# Altium footprint library Custom_Footprints.PcbLib: 15 footprints
Each footprint in its own frame and in the unit in brackets; x right, y up, seen from the top. Pads: shape width x height; smd on the part's side, far side on the other; paste and mask are expansions set on the pad; w line width, h text height; cw(c..) or ccw(c..) is an arc to the next point about the centre after c.
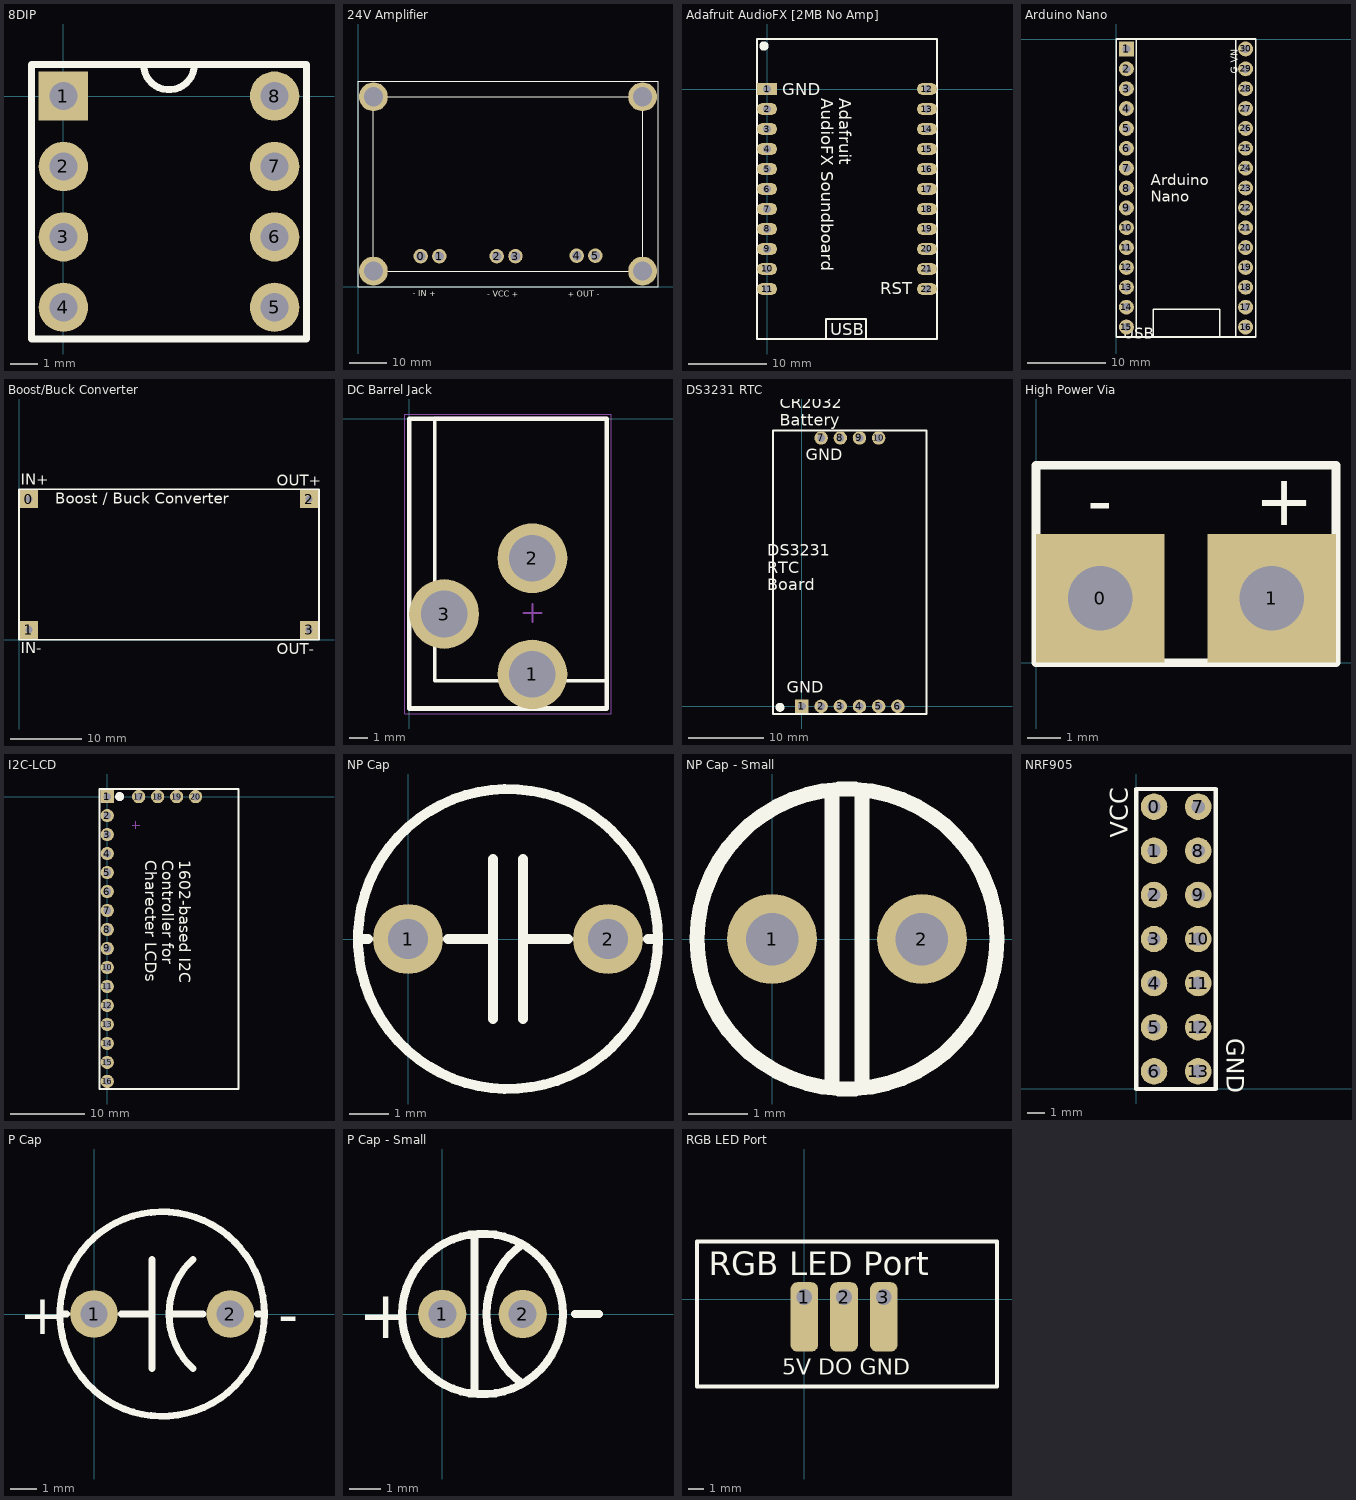
[diagram p0: the footprints below, top view; thin cyan lines are the x and y axes]

## 8DIP [mil]
pads (8):
  rect 70x70 hole 40: 1(0,0)
  round 70 hole 40: 2(0,-100) 3(0,-200) 4(0,-300) 5(300,-300) 6(300,-200) 7(300,-100) 8(300,0)
Top Overlay:
  lines w10: 113.94,45 ccw(c150,45) 186.06,45 ; -45,-345 345,-345 345,45 -45,45 -45,-345

## 24V Amplifier [mil]
pads (10):
  round 150 hole 100: 0(650,315) 1(845,315) 2(1440,315) 3(1635,315) 4(2270,320) 5(2465,320)
  round 300 hole 200: ""(160,160) ""(160,1970) ""(2955,160) ""(2955,1970)
Top Overlay:
  lines w10: 160,160 160,1970 2955,1970 2955,160 ; 160,160 2955,160 ; 160,160 2955,160 ; 0,0 3115,0 3115,2130 0,2130 0,0
  text "+ OUT -" at 2180,-105 h60
  text "- VCC +" at 1340,-105 h60
  text "- IN +" at 570,-100 h60

## Adafruit AudioFX [2MB No Amp] [mil]
pads (22):
  rect 100x60 hole 40: 1(0,0)
  oval 100x60 hole 40: 2(0,-100) 3(0,-200) 4(0,-300) 5(0,-400) 6(0,-500) 7(0,-600) 8(0,-700) 9(0,-800) 10(0,-900) 11(0,-1000) 12(800,0) 13(800,-100) 14(800,-200) 15(800,-300) 16(800,-400) 17(800,-500) 18(800,-600) 19(800,-700) 20(800,-800) 21(800,-900) 22(800,-1000)
Top Overlay:
  circle w23.62: c-15,215 r11.81
  lines w10: -50,-1250 850,-1250 850,250 -50,250 -50,-1250 ; 295,-1250 495,-1250 495,-1150 295,-1150 295,-1250
  text "GND" at 75,-30 h60
  text "USB" at 315,-1230 h60
  text "RST" at 565,-1025 h60
  text "Adafruit / AudioFX Soundboard" at 270,-45 h60

## Arduino Nano [mil]
pads (30):
  rect 75x75 hole 40: 1(50,-50)
  round 75 hole 40: 2(50,-150) 3(50,-250) 4(50,-350) 5(50,-450) 6(50,-550) 7(50,-650) 8(50,-750) 9(50,-850) 10(50,-950) 11(50,-1050) 12(50,-1150) 13(50,-1250) 14(50,-1350) 15(50,-1450) 16(650,-1450) 17(650,-1350) 18(650,-1250) 19(650,-1150) 20(650,-1050) 21(650,-950) 22(650,-850) 23(650,-750) 24(650,-650) 25(650,-550) 26(650,-450) 27(650,-350) 28(650,-250) 29(650,-150) 30(650,-50)
Top Overlay:
  lines w7.87: 5,0 640,0 ; 50,-1500 615,-1500 ; 185,-1500 185,-1360 520,-1360 520,-1500 455,-1500 ; 555,-1500 700,-1500 700,-75 700,-30 700,0 555,0 ; 600,-1500 600,0 ; 0,-1500 100,-1500 100,-75 100,0 0,0 0,-1500
  text "VN" at 610,-120 h35
  text "Arduino / Nano" at 173.05,-817.93 h55.12
  text "USB" at 35,-1510 h55.12
  text "G" at 610,-175 h35

## Boost/Buck Converter [mil]
pads (4):
  rect 100x100 hole 40: 0(55,780) 1(55,55) 2(1610,780) 3(1610,55)
Top Overlay:
  lines w10: 0,0 1665,0 1665,835 0,835 0,0
  text "IN+" at 10,860 h60
  text "OUT+" at 1430,855 h60
  text "IN-" at 10,-75 h60
  text "OUT-" at 1430,-80 h60
  text "Boost / Buck Converter" at 200,755 h60

## DC Barrel Jack [mil]
pads (3):
  round 150 hole 100: 1(265,-550) 2(265,-300) 3(75,-420)
Top Overlay:
  lines w7.87: 55,-475.2 55,-563.78 207.91,-563.78 ; 55,-361.02 55,0 425,0 425,-563.78 322.09,-563.78
  lines w10: 0,-623.15 425,-623.15 425,0 0,0 0,-623.15
Mechanical 13:
  lines w3.94: 55,-563.77 425,-563.77 425,3.16 55,3.16 55,-563.77
Mechanical 15:
  lines w1.97: -10,-635 -10,10 435,10 435,-635 -10,-635
  lines w3.94: 245.32,-418.11 284.69,-418.11 ; 265,-437.8 265,-398.43

## DS3231 RTC [mil]
pads (10):
  rect 70x70 hole 40: 1(0,0)
  round 70 hole 40: 2(100,0) 3(200,0) 4(300,0) 5(400,0) 6(500,0) 7(100,1400) 8(200,1400) 9(300,1400) 10(400,1400)
Top Overlay:
  circle w23.62: c-115,-5 r11.81
  lines w10: -150,-40 650,-40 650,1440 -150,1440 -150,-40
  text "DS3231 / RTC / Board" at -179.86,605 h60
  text "Replace with  / CR2032 / Battery" at -115,1465 h60
  text "GND" at -80,70 h60
  text "GND" at 20,1285 h60

## High Power Via [mil]
pads (2):
  rect 150x150 hole 75: 0(75,75) 1(275,75)
Top Overlay:
  lines w10: 0,0 350,0 350,230 0,230 0,0
  text "+" at 255,160 h60
  text "-" at 60,160.01 h60

## I2C-LCD [mil] "Converter Board for I2C-LCD"
pads (20):
  rect 70x70 hole 40: 1(0,0)
  round 70 hole 40: 2(0,-100) 3(0,-200) 4(0,-300) 5(0,-400) 6(0,-500) 7(0,-600) 8(0,-700) 9(0,-800) 10(0,-900) 11(0,-1000) 12(0,-1100) 13(0,-1200) 14(0,-1300) 15(0,-1400) 16(0,-1500) 17(165,0) 18(265,0) 19(365,0) 20(465,0)
Top Overlay:
  circle w23.62: c65,0 r11.81
  lines w10: -40,-1540 -40,40 690,40 690,-1540 -40,-1540
  text "1602-based I2C  / Controller for  / Charecter LCDs" at 200,-335 h60
Mechanical 13:
  circle w3.94: c65,0 r19.68
Mechanical 15:
  lines w3.94: 130.31,-150 169.69,-150 ; 150,-169.69 150,-130.31

## NP Cap [mil]
pads (2):
  round 70 hole 40: 1(0,0) 2(200,0)
Top Overlay:
  circle w10: c100,0 r150
  lines w10: -50,0 -40,0 ; 40,0 85,0 ; 85,-80 85,80 ; 115,-80 115,80 ; 115,0 160,0 ; 240,0 250,0

## NP Cap - Small [mil]
pads (2):
  round 60 hole 35: 1(0,0) 2(100,0)
Top Overlay:
  circle w10: c50,0 r100
  lines w10: 40,-95 40,95 ; 60,-95 60,95

## NRF905 [mil]
pads (14):
  round 60 hole 30: 0(40,640) 1(40,540) 2(40,440) 3(40,340) 4(40,240) 5(40,140) 6(40,40) 7(140,640) 8(140,540) 9(140,440) 10(140,340) 11(140,240) 12(140,140) 13(140,40)
Top Overlay:
  lines w10: 0,0 180,0 180,680 0,680 0,0
  text "GND" at 205,115 h40
  text "VCC" at -20,570 h40

## P Cap [mil]
pads (2):
  round 70 hole 40: 1(0,0) 2(200,0)
Top Overlay:
  circle w10: c100,0 r150
  lines w10: -50,0 -40,0 ; 40,0 85,0 ; 85,-80 85,80 ; 110,0 160,0 ; 145,-80 cw(c218.93,0) 145,80 ; 240,0 250,0
  text "-" at 270,-29.99 h60
  text "+" at -110,-30 h60

## P Cap - Small [mil]
pads (2):
  round 60 hole 35: 1(0,0) 2(100,0)
Top Overlay:
  circle w10: c50,0 r100
  lines w10: 40,-95 40,95 ; 99.01,-86.37 cw(c161.75,0) 99.01,86.37 ; 165,0 195,0
  text "+" at -105,-30 h60

## RGB LED Port [mil]
pads (3):
  rrect50% 70x175 hole 40 copper offset 0,-50: 1(0,5) 2(100,5) 3(200,5)
Top Overlay:
  lines w10: -270,-220 485,-220 485,145 -270,145 -270,-220
  text "5V DO GND" at -55,-190 h40
  text "RGB LED Port" at -240,60 h60